# EAGLE library part ARDUINO_DUE_SHIELD (library arduino_due_shield)
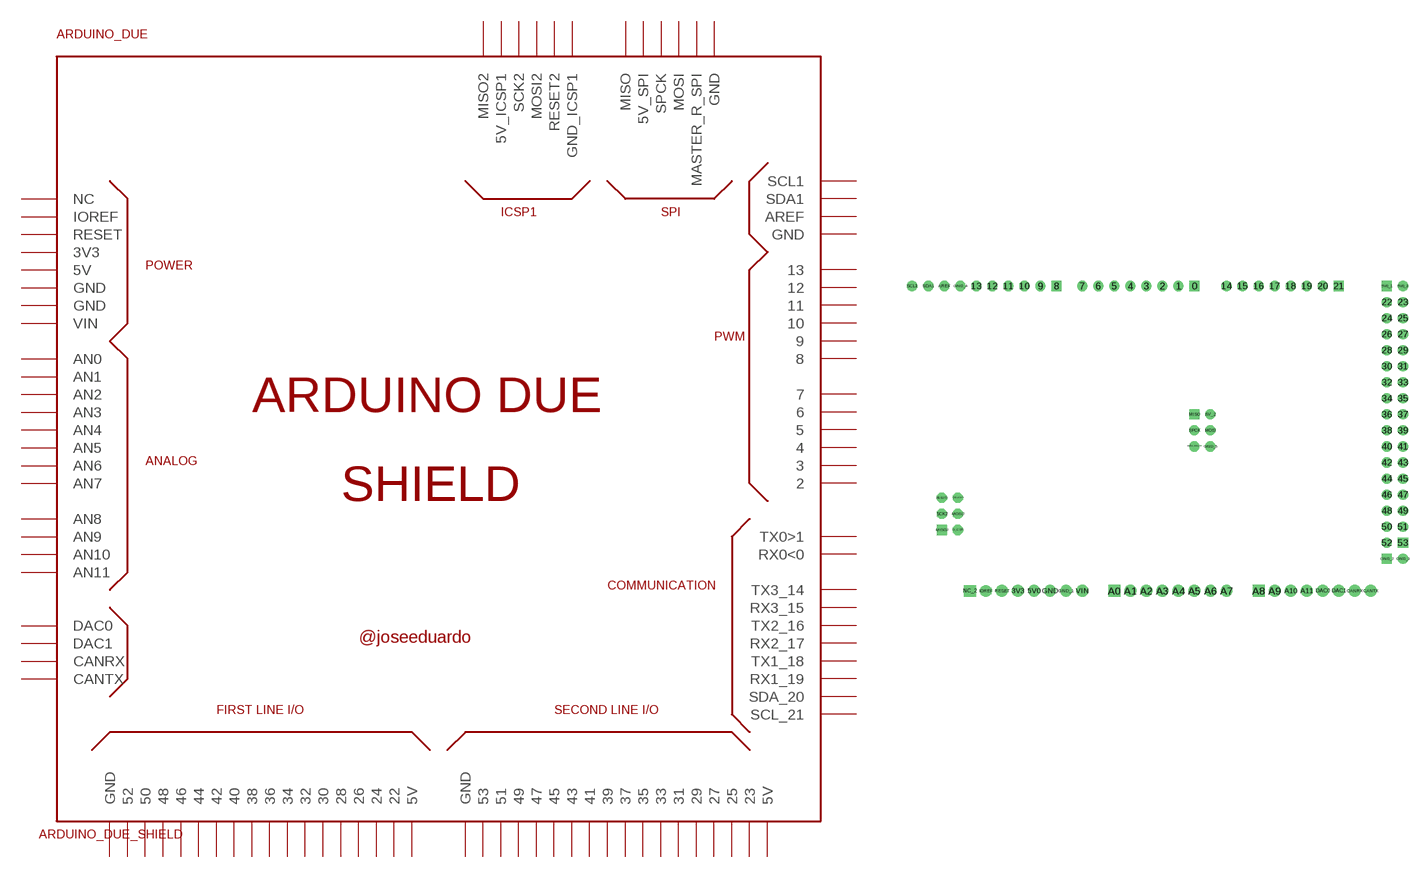
[diagram p0: symbol with the pads of ARDUINO_DUE_SHIELD; footprint ARDUINO_DUE_SHIELD]

Designator prefix ARDUINO_DUE

## ARDUINO_DUE_SHIELD  [ARDUINO_DUE_SHIELD]
0  RX0<0
1  TX0>1
2  2
3  3
3V3  3V3
4  4
5  5
5V0  5V
5V0_1  5V
5V0_2  5V
5V_2  5V_SPI
5V_ICSP1  5V_ICSP1
6  6
7  7
8  8
9  9
10  10
11  11
12  12
13  13
14  TX3_14
15  RX3_15
16  TX2_16
17  RX2_17
18  TX1_18
19  RX1_19
20  SDA_20
21  SCL_21
22  22
23  23
24  24
25  25
26  26
27  27
28  28
29  29
30  30
31  31
32  32
33  33
34  34
35  35
36  36
37  37
38  38
39  39
40  40
41  41
42  42
43  43
44  44
45  45
46  46
47  47
48  48
49  49
50  50
51  51
52  52
53  53
A0  AN0
A1  AN1
A2  AN2
A3  AN3
A4  AN4
A5  AN5
A6  AN6
A7  AN7
A8  AN8
A9  AN9
A10  AN10
A11  AN11
AREF  AREF
CANRX  CANRX
CANTX  CANTX
DAC0  DAC0
DAC1  DAC1
GND  GND
GND_1  GND
GND_2  GND
GND_3  GND
GND_4  GND
GND_5  GND
GND_ICSP1  GND_ICSP1
IOREF  IOREF
MASTER_RESET_SPI  MASTER_R_SPI
MISO  MISO
MISO2  MISO2
MOSI  MOSI
MOSI2  MOSI2
NC_2  NC  nc
RESET  RESET
RESET2  RESET2
SCK2  SCK2
SCL1  SCL1
SDA1  SDA1
SPCK  SPCK
VIN  VIN

## Footprint ARDUINO_DUE_SHIELD (pad centres in mm)
drill 1.067 square: 0 63.373,51.816; 5V0_1 93.853,51.816; 8 41.529,51.816; 21 86.233,51.816; 53 96.393,11.176; GND_2 93.853,8.636; MISO 63.373,31.496; MISO2 23.384,13.196
drill 1.067: 1 60.833,51.816; 2 58.293,51.816; 3 55.753,51.816; 4 53.213,51.816; 5 50.673,51.816; 5V0_2 96.393,51.816; 5V_2 65.913,31.496; 6 48.133,51.816; 7 45.593,51.816; 9 38.989,51.816; 10 36.449,51.816; 11 33.909,51.816; 12 31.369,51.816; 13 28.829,51.816; 14 68.453,51.816; 15 70.993,51.816; 16 73.533,51.816; 17 76.073,51.816; 18 78.613,51.816; 19 81.153,51.816; 20 83.693,51.816; 22 93.853,49.276; 23 96.393,49.276; 24 93.853,46.736; 25 96.393,46.736; 26 93.853,44.196; 27 96.393,44.196; 28 93.853,41.656; 29 96.393,41.656; 30 93.853,39.116; 31 96.393,39.116; 32 93.853,36.576; 33 96.393,36.576; 34 93.853,34.036; 35 96.393,34.036; 36 93.853,31.496; 37 96.393,31.496; 38 93.853,28.956; 39 96.393,28.956; 40 93.853,26.416; 41 96.393,26.416; 42 93.853,23.876; 43 96.393,23.876; 44 93.853,21.336; 45 96.393,21.336; 46 93.853,18.796; 47 96.393,18.796; 48 93.853,16.256; 49 96.393,16.256; 50 93.853,13.716; 51 96.393,13.716; 52 93.853,11.176; AREF 23.749,51.816; GND_3 96.393,8.636; GND_4 26.289,51.816; GND_5 65.913,26.416; MASTER_RESET_SPI 63.373,26.416; MOSI 65.913,28.956; SCL1 18.669,51.816; SDA1 21.209,51.816; SPCK 63.373,28.956
drill 1.016 pad 1.88: 3V3 35.433,3.556; 5V0 37.973,3.556; A1 53.213,3.556; A2 55.753,3.556; A3 58.293,3.556; A4 60.833,3.556; A5 63.373,3.556; A6 65.913,3.556; A7 68.453,3.556; A9 76.073,3.556; A10 78.613,3.556; A11 81.153,3.556; CANRX 88.773,3.556; CANTX 91.313,3.556; DAC0 83.693,3.556; DAC1 86.233,3.556; GND 40.513,3.556; GND_1 43.053,3.556; IOREF 30.346,3.543; RESET 32.893,3.555; VIN 45.593,3.556
drill 1.067 octagon: 5V_ICSP1 25.924,13.196; GND_ICSP1 25.924,18.276; MOSI2 25.924,15.736; RESET2 23.384,18.276; SCK2 23.384,15.736
drill 1.016 pad 1.88 square: A0 50.673,3.556; A8 73.533,3.556; NC_2 27.806,3.543